# Altium integrated library N-Channel FET.IntLib: 448 symbols (part 5 of 8)
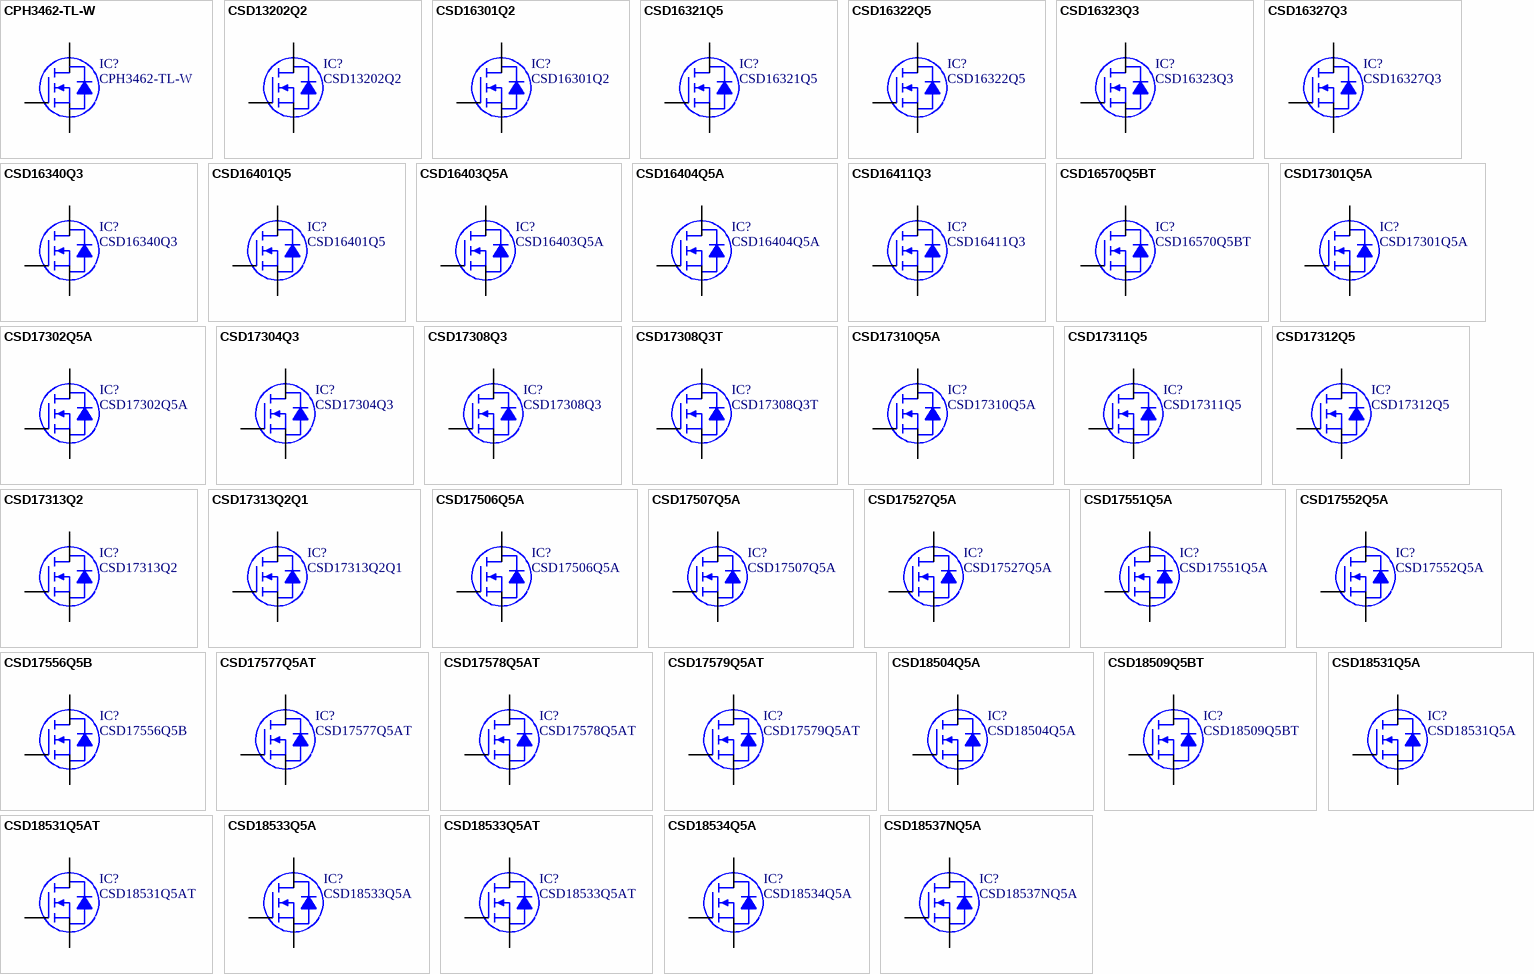
[diagram p15: symbols CPH3462-TL-W to CSD18537NQ5A]

## CSD17308Q3
designator IC?
MOSFET N-CH 30V 47A 8SON; Manufacturer: Texas Instruments; Rds On (Max) at Id, Vgs: 10.3 mOhm @ 10A, 8V; Vgs(th) (Max) at Id: 1.8V @ 250uA; Gate Charge (Qg): 5.1nC @ 4.5V; Input Capacitance (Ciss) at Vds: 700pF @ 15V; Power - Max: 2.7W; Current Continuous Drain: 13A (Ta), 47A (Tc); Part Number: CSD17308Q3; PartId: 18043; Supplier 1: Digi-Key; Supplier Part Number 1: 296-27210-2-ND; ComponentLink1Description: Datasheet; ComponentLink1URL: http://www.ti.com/lit/ds/symlink/csd17308q3.pdf; ComponentLink2Description: Digi-Key Listing; ComponentLink2URL: https://www.digikey.com/product-detail/en/texas-instruments/CSD17308Q3/296-27210-2-ND/2258726; Price: 0.4194; Type: MOSFET N-Channel, Metal Oxide; Device Package: 8-PowerTDFN; Drain to Source Voltage (Vdss): 30V; Features: Standard
footprint TI SON-8 Q3
pins: 1 S, 2 S, 3 S, 4 G, 5 D, 6 D, 7 D, 8 D

## CSD17308Q3T
designator IC?
MOSFET N-CH 30V 50A; Manufacturer: Texas Instruments; Rds On (Max) at Id, Vgs: 10.3 mOhm @ 10A, 8V; Vgs(th) (Max) at Id: 1.8V @ 250uA; Gate Charge (Qg): 5.1nC @ 4.5V; Input Capacitance (Ciss) at Vds: 700pF @ 15V; Power - Max: 2.7W; Current Continuous Drain: 50A (Ta), 44A (Tc); Part Number: CSD17308Q3T; PartId: 18050; Supplier 1: Digi-Key; Supplier Part Number 1: 296-44075-2-ND; ComponentLink1Description: Datasheet; ComponentLink1URL: http://www.ti.com/lit/ds/symlink/csd17308q3.pdf; ComponentLink2Description: Digi-Key Listing; ComponentLink2URL: https://www.digikey.com/product-detail/en/texas-instruments/CSD17308Q3T/296-44075-2-ND/5985436; Price: 0.8314; Type: MOSFET N-Channel, Metal Oxide; Device Package: 8-PowerTDFN; Drain to Source Voltage (Vdss): 30V; Features: Standard
footprint TI SON-8 Q3
pins: 1 S, 2 S, 3 S, 4 G, 5 D, 6 D, 7 D, 8 D

## CSD17310Q5A
designator IC?
MOSFET N-CH 30V 100A 8SON; Manufacturer: Texas Instruments; Rds On (Max) at Id, Vgs: 5.1 mOhm @ 20A, 8V; Vgs(th) (Max) at Id: 1.8V @ 250uA; Gate Charge (Qg): 11.6nC @ 4.5V; Input Capacitance (Ciss) at Vds: 1560pF @ 15V; Power - Max: 3.1W; Current Continuous Drain: 21A (Ta), 100A (Tc); Part Number: CSD17310Q5A; PartId: 18034; Supplier 1: Digi-Key; Supplier Part Number 1: 296-25858-2-ND; ComponentLink1Description: Datasheet; ComponentLink1URL: http://www.ti.com/lit/ds/symlink/csd17310q5a.pdf; ComponentLink2Description: Digi-Key Listing; ComponentLink2URL: https://www.digikey.com/product-detail/en/texas-instruments/CSD17310Q5A/296-25858-2-ND/2237243; Price: 0.5285; Type: MOSFET N-Channel, Metal Oxide; Device Package: 8-PowerTDFN; Drain to Source Voltage (Vdss): 30V; Features: Standard
footprint TI 8-TDFN Q5A
pins: 1 S, 2 S, 3 S, 4 G, 5 D, 6 D, 7 D, 8 D

## CSD17311Q5
designator IC?
MOSFET N-CH 30V 100A 8SON; Manufacturer: Texas Instruments; Rds On (Max) at Id, Vgs: 2 mOhm @ 30A, 8V; Vgs(th) (Max) at Id: 1.6V @ 250uA; Gate Charge (Qg): 31nC @ 4.5V; Input Capacitance (Ciss) at Vds: 4280pF @ 15V; Power - Max: 3.2W; Current Continuous Drain: 32A (Ta), 100A (Tc); Part Number: CSD17311Q5; PartId: 8135; Supplier 1: Digi-Key; Supplier Part Number 1: 296-27625-2-ND; ComponentLink1Description: Datasheet; ComponentLink1URL: http://www.ti.com/lit/ds/symlink/csd17311q5.pdf; ComponentLink2Description: Digi-Key Listing; ComponentLink2URL: http://www.digikey.com/product-detail/en/CSD17311Q5/296-27625-2-ND/2345374; Price: 0.8437; Type: MOSFET N-Channel, Metal Oxide; Device Package: 8-TDFN Exposed Pad; Drain to Source Voltage (Vdss): 30V; Features: Logic Level Gate
footprint TI 8-TDFN Q5
pins: 1 S, 2 S, 3 S, 4 G, 5 D, 6 D, 7 D, 8 D

## CSD17312Q5
designator IC?
MOSFET N-CH 30V 100A 8SON; Manufacturer: Texas Instruments; Rds On (Max) at Id, Vgs: 1.5 mOhm @ 35A, 8V; Vgs(th) (Max) at Id: 1.5V @ 250uA; Gate Charge (Qg): 36nC @ 4.5V; Input Capacitance (Ciss) at Vds: 5240pF @ 15V; Power - Max: 3.2W; Current Continuous Drain: 38A (Ta), 100A (Tc); Part Number: CSD17312Q5; PartId: 8136; Supplier 1: Digi-Key; Supplier Part Number 1: 296-27613-2-ND; ComponentLink1Description: Datasheet; ComponentLink1URL: http://www.ti.com/lit/ds/symlink/csd17312q5.pdf; ComponentLink2Description: Digi-Key Listing; ComponentLink2URL: http://www.digikey.com/product-detail/en/CSD17312Q5/296-27613-2-ND/2342844; Price: 1.0687; Type: MOSFET N-Channel, Metal Oxide; Device Package: 8-TDFN Exposed Pad; Drain to Source Voltage (Vdss): 30V; Features: Logic Level Gate
footprint TI 8-TDFN Q5
pins: 1 S, 2 S, 3 S, 4 G, 5 D, 6 D, 7 D, 8 D

## CSD17313Q2
designator IC?
MOSFET N-CH 30V 5A 6SON; Manufacturer: Texas Instruments; Rds On (Max) at Id, Vgs: 30 mOhm @ 4A, 8V; Vgs(th) (Max) at Id: 1.8V @ 250uA; Gate Charge (Qg): 2.7nC @ 4.5V; Input Capacitance (Ciss) at Vds: 340pF @ 15V; Power - Max: 2.3W; Current Continuous Drain: 5A (Tc); Part Number: CSD17313Q2; PartId: 8128; Supplier 1: Digi-Key; Supplier Part Number 1: 296-27233-2-ND; ComponentLink1Description: Datasheet; ComponentLink1URL: http://www.ti.com/lit/ds/symlink/csd17313q2.pdf; ComponentLink2Description: Digi-Key Listing; ComponentLink2URL: http://www.digikey.com/product-detail/en/CSD17313Q2/296-27233-2-ND/2263833; Price: 0.1725; Type: MOSFET N-Channel, Metal Oxide; Device Package: 6-SMD, Flat Leads; Drain to Source Voltage (Vdss): 30V; Features: Logic Level Gate
footprint TI SON-6 Q2
pins: 1 D, 1 5, 1 6, 1 8, 2 D, 3 G, 4 S, 7 S

## CSD17313Q2Q1
designator IC?
MOSFET N-CH 30V 5A 6SON; Manufacturer: Texas Instruments; Rds On (Max) at Id, Vgs: 30 mOhm @ 4A, 8V; Vgs(th) (Max) at Id: 1.8V @ 250uA; Gate Charge (Qg): 2.7nC @ 4.5V; Input Capacitance (Ciss) at Vds: 340pF @ 15V; Power - Max: 2.3W; Current Continuous Drain: 5A (Tc); Part Number: CSD17313Q2Q1; PartId: 8131; Supplier 1: Digi-Key; Supplier Part Number 1: 296-35548-2-ND; ComponentLink1Description: Datasheet; ComponentLink1URL: http://www.ti.com/lit/ds/symlink/csd17313q2q1.pdf; ComponentLink2Description: Digi-Key Listing; ComponentLink2URL: http://www.digikey.com/product-detail/en/CSD17313Q2Q1/296-35548-2-ND/3821376; Price: 0.2012; Type: MOSFET N-Channel, Metal Oxide; Device Package: 6-WDFN Exposed Pad; Drain to Source Voltage (Vdss): 30V; Features: Logic Level Gate
footprint TI SON-6 Q2
pins: 1 D, 1 5, 1 6, 1 8, 2 D, 3 G, 4 S, 7 S

## CSD17506Q5A
designator IC?
MOSFET N-CH 30V 100A 8SON; Manufacturer: Texas Instruments; Rds On (Max) at Id, Vgs: 4 mOhm @ 20A, 10V; Vgs(th) (Max) at Id: 1.8V @ 250uA; Gate Charge (Qg): 11nC @ 4.5V; Input Capacitance (Ciss) at Vds: 1650pF @ 15V; Power - Max: 3.2W; Current Continuous Drain: 100A (Tc); Part Number: CSD17506Q5A; PartId: 18038; Supplier 1: Digi-Key; Supplier Part Number 1: 296-28408-2-ND; ComponentLink1Description: Datasheet; ComponentLink1URL: http://www.ti.com/lit/ds/symlink/csd17506q5a.pdf; ComponentLink2Description: Digi-Key Listing; ComponentLink2URL: https://www.digikey.com/product-detail/en/texas-instruments/CSD17506Q5A/296-28408-2-ND/2627705; Price: 0.7598; Type: MOSFET N-Channel, Metal Oxide; Device Package: 8-PowerTDFN; Drain to Source Voltage (Vdss): 30V; Features: Standard
footprint TI 8-TDFN Q5A
pins: 1 S, 2 S, 3 S, 4 G, 5 D, 6 D, 7 D, 8 D

## CSD17507Q5A
designator IC?
MOSFET N-CH 30V 65A 8SON; Manufacturer: Texas Instruments; Rds On (Max) at Id, Vgs: 10.8 mOhm @ 11A, 10V; Vgs(th) (Max) at Id: 2.1V @ 250uA; Gate Charge (Qg): 3.6nC @ 4.5V; Input Capacitance (Ciss) at Vds: 530pF @ 15V; Power - Max: 3W; Current Continuous Drain: 13A (Ta), 65A (Tc); Part Number: CSD17507Q5A; PartId: 18040; Supplier 1: Digi-Key; Supplier Part Number 1: 296-27791-2-ND; ComponentLink1Description: Datasheet; ComponentLink1URL: http://www.ti.com/lit/ds/symlink/csd17507q5a.pdf; ComponentLink2Description: Digi-Key Listing; ComponentLink2URL: https://www.digikey.com/product-detail/en/texas-instruments/CSD17507Q5A/296-27791-2-ND/2403767; Price: 0.378; Type: MOSFET N-Channel, Metal Oxide; Device Package: 8-PowerTDFN; Drain to Source Voltage (Vdss): 30V; Features: Standard
footprint TI 8-TDFN Q5A
pins: 1 S, 2 S, 3 S, 4 G, 5 D, 6 D, 7 D, 8 D

## CSD17527Q5A
designator IC?
MOSFET N-CH 30V 65A 8SON; Manufacturer: Texas Instruments; Rds On (Max) at Id, Vgs: 10.8 mOhm @ 11A, 10V; Vgs(th) (Max) at Id: 2V @ 250uA; Gate Charge (Qg): 3.4nC @ 4.5V; Input Capacitance (Ciss) at Vds: 506pF @ 15V; Power - Max: 3W; Current Continuous Drain: 65A (Tc); Part Number: CSD17527Q5A; PartId: 18039; Supplier 1: Digi-Key; Supplier Part Number 1: 296-29021-2-ND; ComponentLink1Description: Datasheet; ComponentLink1URL: http://www.ti.com/lit/ds/symlink/csd17527q5a.pdf; ComponentLink2Description: Digi-Key Listing; ComponentLink2URL: https://www.digikey.com/product-detail/en/texas-instruments/CSD17527Q5A/296-29021-2-ND/2687223; Price: 0.5417; Type: MOSFET N-Channel, Metal Oxide; Device Package: 8-PowerTDFN; Drain to Source Voltage (Vdss): 30V; Features: Standard
footprint TI 8-TDFN Q5A
pins: 1 S, 2 S, 3 S, 4 G, 5 D, 6 D, 7 D, 8 D

## CSD17551Q5A
designator IC?
MOSFET N-CH 30V 8SON; Manufacturer: Texas Instruments; Rds On (Max) at Id, Vgs: 8.8 mOhm @ 11A, 10V; Vgs(th) (Max) at Id: 2.2V @ 250uA; Gate Charge (Qg): 7.2nC @ 4.5V; Input Capacitance (Ciss) at Vds: 1272pF @ 15V; Power - Max: 3W; Current Continuous Drain: 48A (Tc); Part Number: CSD17551Q5A; PartId: 18037; Supplier 1: Digi-Key; Supplier Part Number 1: 296-30612-2-ND; ComponentLink1Description: Datasheet; ComponentLink1URL: http://www.ti.com/lit/ds/symlink/csd17551q5a.pdf; ComponentLink2Description: Digi-Key Listing; ComponentLink2URL: https://www.digikey.com/product-detail/en/texas-instruments/CSD17551Q5A/296-30612-2-ND/3487229; Price: 0.4739; Type: MOSFET N-Channel, Metal Oxide; Device Package: 8-PowerTDFN; Drain to Source Voltage (Vdss): 30V; Features: Standard
footprint TI 8-TDFN Q5A
pins: 1 S, 2 S, 3 S, 4 G, 5 D, 6 D, 7 D, 8 D

## CSD17552Q5A
designator IC?
MOSFET N-CH 30V 17A 8SON; Manufacturer: Texas Instruments; Rds On (Max) at Id, Vgs: 6.2 mOhm @ 15A, 10V; Vgs(th) (Max) at Id: 1.9V @ 250uA; Gate Charge (Qg): 12nC @ 4.5V; Input Capacitance (Ciss) at Vds: 2050pF @ 15V; Power - Max: 3W; Current Continuous Drain: 17A (Ta), 60A (Tc); Part Number: CSD17552Q5A; PartId: 18035; Supplier 1: Digi-Key; Supplier Part Number 1: 296-35580-2-ND; ComponentLink1Description: Datasheet; ComponentLink1URL: http://www.ti.com/lit/ds/symlink/csd17552q5a.pdf; ComponentLink2Description: Digi-Key Listing; ComponentLink2URL: https://www.digikey.com/product-detail/en/texas-instruments/CSD17552Q5A/296-35580-2-ND/3830013; Price: 0.4834; Type: MOSFET N-Channel, Metal Oxide; Device Package: 8-PowerTDFN; Drain to Source Voltage (Vdss): 30V; Features: Logic Level Gate
footprint TI 8-TDFN Q5A
pins: 1 S, 2 S, 3 S, 4 G, 5 D, 6 D, 7 D, 8 D

## CSD17556Q5B
designator IC?
MOSFET N-CH 30V 8-VSON; Manufacturer: Texas Instruments; Rds On (Max) at Id, Vgs: 1.4 mOhm @ 40A, 10V; Vgs(th) (Max) at Id: 1.65V @ 250uA; Gate Charge (Qg): 39nC @ 4.5V; Input Capacitance (Ciss) at Vds: 7020pF @ 15V; Power - Max: 3.1W; Current Continuous Drain: 34A (Ta), 100A (Tc); Part Number: CSD17556Q5B; PartId: 7972; Supplier 1: Digi-Key; Supplier Part Number 1: 296-35726-2-ND; ComponentLink1Description: Datasheet; ComponentLink1URL: http://www.ti.com/lit/ds/symlink/csd17556q5b.pdf; ComponentLink2Description: Digi-Key Listing; ComponentLink2URL: http://www.digikey.com/product-detail/en/CSD17556Q5B/296-35726-2-ND/3974439; Price: 1.1587; Type: MOSFET N-Channel, Metal Oxide; Device Package: 8-TDFN Exposed Pad; Drain to Source Voltage (Vdss): 30V; Features: Standard
footprint TI VSON-8 Q5B
pins: 1 S, 2 S, 3 S, 4 G, 5 D, 6 D, 7 D, 8 D

## CSD17577Q5AT
designator IC?
MOSFET N-CH 30V 60A 8VSON; Manufacturer: Texas Instruments; Rds On (Max) at Id, Vgs: 4.2 mOhm @ 18A, 10V; Vgs(th) (Max) at Id: 1.8V @ 250uA; Gate Charge (Qg): 35nC @ 10V; Input Capacitance (Ciss) at Vds: 2310pF @ 15V; Power - Max: 3W; Current Continuous Drain: 60A (Ta); Part Number: CSD17577Q5AT; PartId: 18030; Supplier 1: Digi-Key; Supplier Part Number 1: 296-38337-2-ND; ComponentLink1Description: Datasheet; ComponentLink1URL: http://www.ti.com/lit/ds/symlink/csd17577q5a.pdf; ComponentLink2Description: Digi-Key Listing; ComponentLink2URL: https://www.digikey.com/product-detail/en/texas-instruments/CSD17577Q5AT/296-38337-2-ND/4968293; Price: 0.8274; Type: MOSFET N-Channel, Metal Oxide; Device Package: 8-PowerVDFN; Drain to Source Voltage (Vdss): 30V; Features: Standard
footprint TI 8-TDFN Q5A
pins: 1 S, 2 S, 3 S, 4 G, 5 D, 6 D, 7 D, 8 D

## CSD17578Q5AT
designator IC?
MOSFET N-CH 30V 25A 8VSON; Manufacturer: Texas Instruments; Rds On (Max) at Id, Vgs: 6.9 mOhm @ 10A, 10V; Vgs(th) (Max) at Id: 1.9V @ 250uA; Gate Charge (Qg): 22.3nC @ 10V; Input Capacitance (Ciss) at Vds: 1510pF @ 15V; Power - Max: 3.1W; Current Continuous Drain: 25A (Ta); Part Number: CSD17578Q5AT; PartId: 18032; Supplier 1: Digi-Key; Supplier Part Number 1: 296-41099-2-ND; ComponentLink1Description: Datasheet; ComponentLink1URL: http://www.ti.com/lit/ds/symlink/csd17578q5a.pdf; ComponentLink2Description: Digi-Key Listing; ComponentLink2URL: https://www.digikey.com/product-detail/en/texas-instruments/CSD17578Q5AT/296-41099-2-ND/5186328; Price: 0.7496; Type: MOSFET N-Channel, Metal Oxide; Device Package: 8-PowerTDFN; Drain to Source Voltage (Vdss): 30V; Features: Standard
footprint TI 8-TDFN Q5A
pins: 1 S, 2 S, 3 S, 4 G, 5 D, 6 D, 7 D, 8 D

## CSD17579Q5AT
designator IC?
MOSFET N-CH 30V 25A 8VSON; Manufacturer: Texas Instruments; Rds On (Max) at Id, Vgs: 9.7 mOhm @ 8A, 10V; Vgs(th) (Max) at Id: 2V @ 250uA; Gate Charge (Qg): 15.1nC @ 10V; Input Capacitance (Ciss) at Vds: 1030pF @ 15V; Power - Max: 3.1W; Current Continuous Drain: 25A (Ta); Part Number: CSD17579Q5AT; PartId: 18031; Supplier 1: Digi-Key; Supplier Part Number 1: 296-41100-2-ND; ComponentLink1Description: Datasheet; ComponentLink1URL: http://www.ti.com/lit/ds/symlink/csd17579q5a.pdf; ComponentLink2Description: Digi-Key Listing; ComponentLink2URL: https://www.digikey.com/product-detail/en/texas-instruments/CSD17579Q5AT/296-41100-2-ND/5186329; Price: 0.6718; Type: MOSFET N-Channel, Metal Oxide; Device Package: 8-PowerTDFN; Drain to Source Voltage (Vdss): 30V; Features: Standard
footprint TI 8-TDFN Q5A
pins: 1 S, 2 S, 3 S, 4 G, 5 D, 6 D, 7 D, 8 D

## CSD18504Q5A
designator IC?
MOSFET N-CH 40V 8SON; Manufacturer: Texas Instruments; Rds On (Max) at Id, Vgs: 6.6 mOhm @ 17A, 10V; Vgs(th) (Max) at Id: 2.4V @ 250uA; Gate Charge (Qg): 19nC @ 10V; Input Capacitance (Ciss) at Vds: 1656pF @ 20V; Power - Max: 3.1W; Current Continuous Drain: 15A (Ta), 50A (Tc); Part Number: CSD18504Q5A; PartId: 18029; Supplier 1: Digi-Key; Supplier Part Number 1: 296-30572-2-ND; ComponentLink1Description: Datasheet; ComponentLink1URL: http://www.ti.com/lit/ds/symlink/csd18504q5a.pdf; ComponentLink2Description: Digi-Key Listing; ComponentLink2URL: https://www.digikey.com/product-detail/en/texas-instruments/CSD18504Q5A/296-30572-2-ND/3478068; Price: 0.5529; Type: MOSFET N-Channel, Metal Oxide; Device Package: 8-PowerTDFN; Drain to Source Voltage (Vdss): 40V; Features: Logic Level Gate
footprint TI 8-TDFN Q5A
pins: 1 S, 2 S, 3 S, 4 G, 5 D, 6 D, 7 D, 8 D

## CSD18509Q5BT
designator IC?
MOSFET N-CH 40V 100A 8VSON; Manufacturer: Texas Instruments; Rds On (Max) at Id, Vgs: 1.2 mOhm @ 32A, 10V; Vgs(th) (Max) at Id: 2.2V @ 250uA; Gate Charge (Qg): 195nC @ 10V; Input Capacitance (Ciss) at Vds: 13900pF @ 20V; Power - Max: 3.1W; Current Continuous Drain: 100A (Ta); Part Number: CSD18509Q5BT; PartId: 7974; Supplier 1: Digi-Key; Supplier Part Number 1: 296-37962-2-ND; ComponentLink1Description: Datasheet; ComponentLink1URL: http://www.ti.com/lit/ds/symlink/csd18509q5b.pdf; ComponentLink2Description: Digi-Key Listing; ComponentLink2URL: http://www.digikey.com/product-detail/en/CSD18509Q5BT/296-37962-2-ND/4915638; Price: 2.0405; Type: MOSFET N-Channel, Metal Oxide; Device Package: 8-PowerTDFN; Drain to Source Voltage (Vdss): 40V; Features: Logic Level Gate
footprint TI VSON-8 Q5B
pins: 1 S, 2 S, 3 S, 4 G, 5 D, 6 D, 7 D, 8 D

## CSD18531Q5A
designator IC?
MOSFET N-CH 60V 8SON; Manufacturer: Texas Instruments; Rds On (Max) at Id, Vgs: 4.6 mOhm @ 22A, 10V; Vgs(th) (Max) at Id: 2.3V @ 250uA; Gate Charge (Qg): 43nC @ 10V; Input Capacitance (Ciss) at Vds: 3840pF @ 30V; Power - Max: 3.1W; Current Continuous Drain: 19A (Ta), 100A (Tc); Part Number: CSD18531Q5A; PartId: 18025; Supplier 1: Digi-Key; Supplier Part Number 1: 296-30573-2-ND; ComponentLink1Description: Datasheet; ComponentLink1URL: http://www.ti.com/lit/ds/symlink/csd18531q5a.pdf; ComponentLink2Description: Digi-Key Listing; ComponentLink2URL: https://www.digikey.com/product-detail/en/texas-instruments/CSD18531Q5A/296-30573-2-ND/3478069; Price: 0.9762; Type: MOSFET N-Channel, Metal Oxide; Device Package: 8-PowerTDFN; Drain to Source Voltage (Vdss): 60V; Features: Logic Level Gate
footprint TI 8-TDFN Q5A
pins: 1 S, 2 S, 3 S, 4 G, 5 D, 6 D, 7 D, 8 D

## CSD18531Q5AT
designator IC?
MOSFET N-CH 60V 100A 8SON; Manufacturer: Texas Instruments; Rds On (Max) at Id, Vgs: 4.6 mOhm @ 22A, 10V; Vgs(th) (Max) at Id: 2.3V @ 250uA; Gate Charge (Qg): 43nC @ 10V; Input Capacitance (Ciss) at Vds: 3840pF @ 30V; Power - Max: 3.1W; Current Continuous Drain: 100A (Ta); Part Number: CSD18531Q5AT; PartId: 18022; Supplier 1: Digi-Key; Supplier Part Number 1: 296-41958-2-ND; ComponentLink1Description: Datasheet; ComponentLink1URL: http://www.ti.com/lit/ds/symlink/csd18531q5a.pdf; ComponentLink2Description: Digi-Key Listing; ComponentLink2URL: https://www.digikey.com/product-detail/en/texas-instruments/CSD18531Q5AT/296-41958-2-ND/5226495; Price: 1.7364; Type: MOSFET N-Channel, Metal Oxide; Device Package: 8-PowerTDFN; Drain to Source Voltage (Vdss): 60V; Features: Logic Level Gate
footprint TI 8-TDFN Q5A
pins: 1 S, 2 S, 3 S, 4 G, 5 D, 6 D, 7 D, 8 D

## CSD18533Q5A
designator IC?
MOSFET N-CH 60V 17A 8SON; Manufacturer: Texas Instruments; Rds On (Max) at Id, Vgs: 5.9 mOhm @ 18A, 10V; Vgs(th) (Max) at Id: 2.3V @ 250uA; Gate Charge (Qg): 36nC @ 10V; Input Capacitance (Ciss) at Vds: 2750pF @ 30V; Power - Max: 3.2W; Current Continuous Drain: 17A (Ta), 100A (Tc); Part Number: CSD18533Q5A; PartId: 18026; Supplier 1: Digi-Key; Supplier Part Number 1: 296-35027-2-ND; ComponentLink1Description: Datasheet; ComponentLink1URL: http://www.ti.com/lit/ds/symlink/csd18533q5a.pdf; ComponentLink2Description: Digi-Key Listing; ComponentLink2URL: https://www.digikey.com/product-detail/en/texas-instruments/CSD18533Q5A/296-35027-2-ND/3674878; Price: 0.773; Type: MOSFET N-Channel, Metal Oxide; Device Package: 8-PowerTDFN; Drain to Source Voltage (Vdss): 60V; Features: Logic Level Gate
footprint TI 8-TDFN Q5A
pins: 1 S, 2 S, 3 S, 4 G, 5 D, 6 D, 7 D, 8 D

## CSD18533Q5AT
designator IC?
MOSFET N-CH 60V 100A 8SON; Manufacturer: Texas Instruments; Rds On (Max) at Id, Vgs: 5.9 mOhm @ 18A, 10V; Vgs(th) (Max) at Id: 2.3V @ 250uA; Gate Charge (Qg): 36nC @ 10V; Input Capacitance (Ciss) at Vds: 2750pF @ 30V; Power - Max: 3.2W; Current Continuous Drain: 17A (Ta), 100A (Tc); Part Number: CSD18533Q5AT; PartId: 18020; Supplier 1: Digi-Key; Supplier Part Number 1: 296-41959-2-ND; ComponentLink1Description: Datasheet; ComponentLink1URL: http://www.ti.com/lit/ds/symlink/csd18533q5a.pdf; ComponentLink2Description: Digi-Key Listing; ComponentLink2URL: https://www.digikey.com/product-detail/en/texas-instruments/CSD18533Q5AT/296-41959-2-ND/5226496; Price: 1.4655; Type: MOSFET N-Channel, Metal Oxide; Device Package: 8-PowerTDFN; Drain to Source Voltage (Vdss): 60V; Features: Logic Level Gate
footprint TI 8-TDFN Q5A
pins: 1 S, 2 S, 3 S, 4 G, 5 D, 6 D, 7 D, 8 D

## CSD18534Q5A
designator IC?
MOSFET N-CH 60V 8SON; Manufacturer: Texas Instruments; Rds On (Max) at Id, Vgs: 9.8 mOhm @ 14A, 10V; Vgs(th) (Max) at Id: 2.3V @ 250uA; Gate Charge (Qg): 22nC @ 10V; Input Capacitance (Ciss) at Vds: 1770pF @ 30V; Power - Max: 3.1W; Current Continuous Drain: 13A (Ta), 50A (Tc); Part Number: CSD18534Q5A; PartId: 18027; Supplier 1: Digi-Key; Supplier Part Number 1: 296-35583-2-ND; ComponentLink1Description: Datasheet; ComponentLink1URL: http://www.ti.com/lit/ds/symlink/csd18534q5a.pdf; ComponentLink2Description: Digi-Key Listing; ComponentLink2URL: https://www.digikey.com/product-detail/en/texas-instruments/CSD18534Q5A/296-35583-2-ND/3830016; Price: 0.5529; Type: MOSFET N-Channel, Metal Oxide; Device Package: 8-PowerTDFN; Drain to Source Voltage (Vdss): 60V; Features: Logic Level Gate
footprint TI 8-TDFN Q5A
pins: 1 S, 2 S, 3 S, 4 G, 5 D, 6 D, 7 D, 8 D

## CSD18537NQ5A
designator IC?
MOSFET N-CH 60V 50A 8SON; Manufacturer: Texas Instruments; Rds On (Max) at Id, Vgs: 13 mOhm @ 12A, 10V; Vgs(th) (Max) at Id: 3.5V @ 250uA; Gate Charge (Qg): 18nC @ 10V; Input Capacitance (Ciss) at Vds: 1480pF @ 30V; Power - Max: 75W; Current Continuous Drain: 11A (Ta), 50A (Tc); Part Number: CSD18537NQ5A; PartId: 18028; Supplier 1: Digi-Key; Supplier Part Number 1: 296-36455-2-ND; ComponentLink1Description: Datasheet; ComponentLink1URL: http://www.ti.com/lit/ds/symlink/csd18537nq5a.pdf; ComponentLink2Description: Digi-Key Listing; ComponentLink2URL: https://www.digikey.com/product-detail/en/texas-instruments/CSD18537NQ5A/296-36455-2-ND/4279646; Price: 0.4683; Type: MOSFET N-Channel, Metal Oxide; Device Package: 8-PowerTDFN; Drain to Source Voltage (Vdss): 60V; Features: Standard
footprint TI 8-TDFN Q5A
pins: 1 S, 2 S, 3 S, 4 G, 5 D, 6 D, 7 D, 8 D

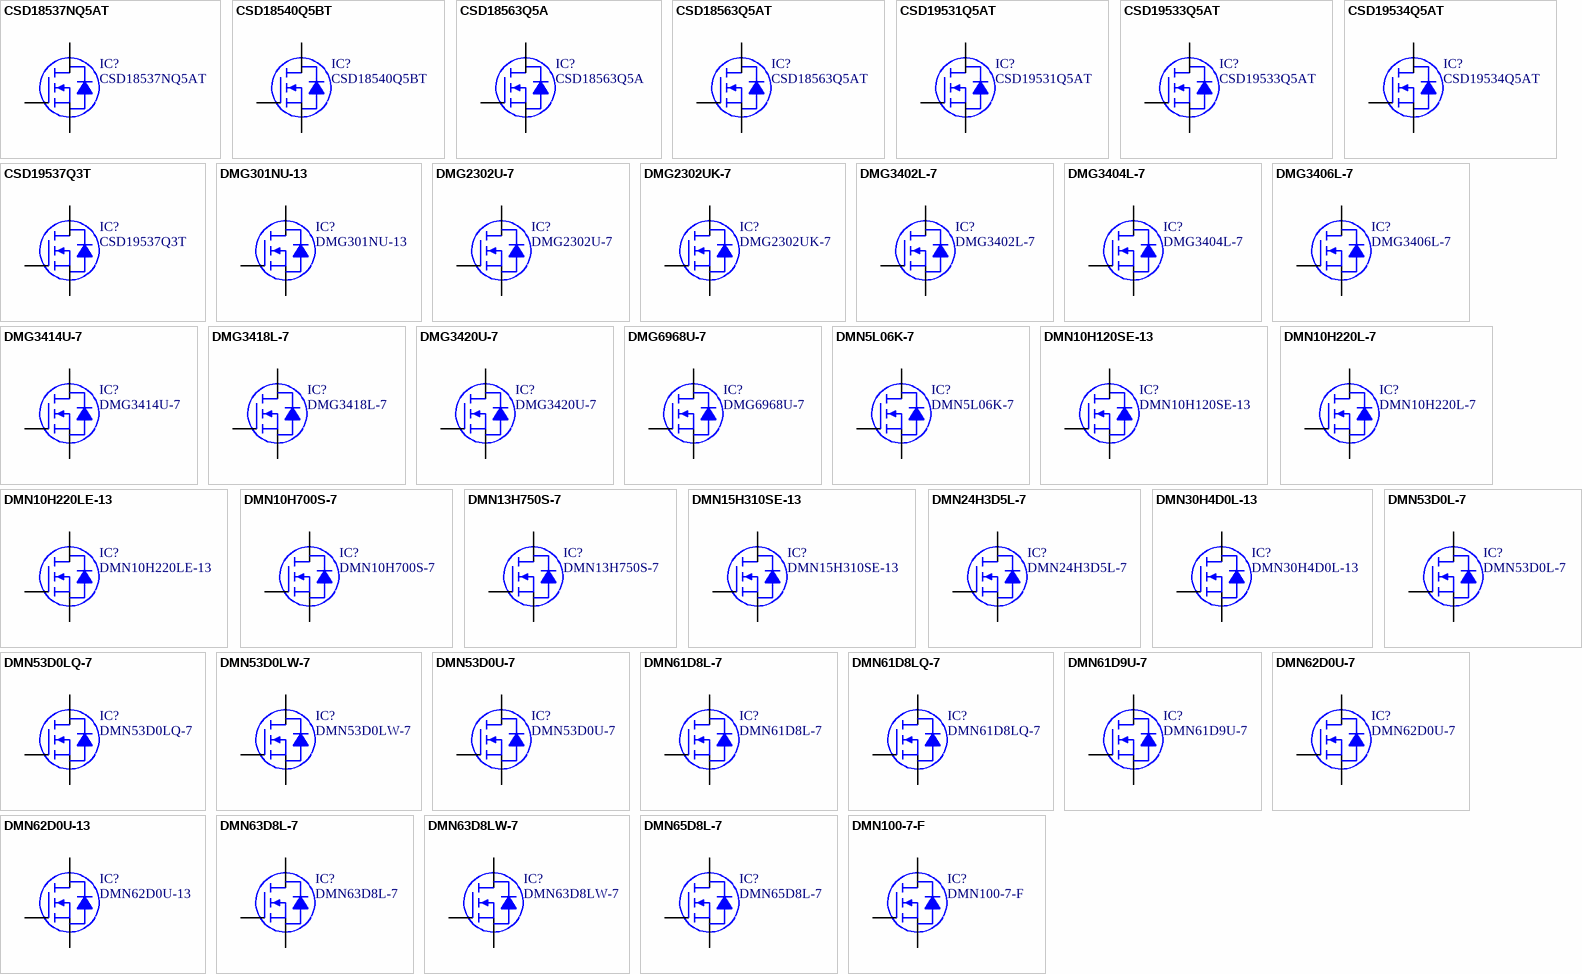
[diagram p6: symbols CSD18537NQ5AT to DMN100-7-F]

## CSD18537NQ5AT
designator IC?
MOSFET N-CH 60V 50A 8SON; Manufacturer: Texas Instruments; Rds On (Max) at Id, Vgs: 13 mOhm @ 12A, 10V; Vgs(th) (Max) at Id: 3.5V @ 250uA; Gate Charge (Qg): 18nC @ 10V; Input Capacitance (Ciss) at Vds: 1480pF @ 30V; Power - Max: 75W; Current Continuous Drain: 50A (Ta); Part Number: CSD18537NQ5AT; PartId: 18023; Supplier 1: Digi-Key; Supplier Part Number 1: 296-37747-2-ND; ComponentLink1Description: Datasheet; ComponentLink1URL: http://www.ti.com/lit/ds/symlink/csd18537nq5a.pdf; ComponentLink2Description: Digi-Key Listing; ComponentLink2URL: https://www.digikey.com/product-detail/en/texas-instruments/CSD18537NQ5AT/296-37747-2-ND/4840659; Price: 0.8606; Type: MOSFET N-Channel, Metal Oxide; Device Package: 8-PowerTDFN; Drain to Source Voltage (Vdss): 60V; Features: Standard
footprint TI 8-TDFN Q5A
pins: 1 S, 2 S, 3 S, 4 G, 5 D, 6 D, 7 D, 8 D

## CSD18540Q5BT
designator IC?
MOSFET N-CH 60V 100A 8VSON; Manufacturer: Texas Instruments; Rds On (Max) at Id, Vgs: 2.2 mOhm @ 28A, 10V; Vgs(th) (Max) at Id: 2.3V @ 250uA; Gate Charge (Qg): 53nC @ 10V; Input Capacitance (Ciss) at Vds: 4230pF @ 30V; Power - Max: 3.1W; Current Continuous Drain: 100A (Ta); Part Number: CSD18540Q5BT; PartId: 7975; Supplier 1: Digi-Key; Supplier Part Number 1: 296-37963-2-ND; ComponentLink1Description: Datasheet; ComponentLink1URL: http://www.ti.com/lit/ds/symlink/csd18540q5b.pdf; ComponentLink2Description: Digi-Key Listing; ComponentLink2URL: http://www.digikey.com/product-detail/en/CSD18540Q5BT/296-37963-2-ND/4915639; Price: 2.0405; Type: MOSFET N-Channel, Metal Oxide; Device Package: 8-PowerTDFN; Drain to Source Voltage (Vdss): 60V; Features: Standard
footprint TI VSON-8 Q5B
pins: 1 S, 2 S, 3 S, 4 G, 5 D, 6 D, 7 D, 8 D

## CSD18563Q5A
designator IC?
MOSFET N-CH 60V 100A 8SON; Manufacturer: Texas Instruments; Rds On (Max) at Id, Vgs: 6.8 mOhm @ 18A, 10V; Vgs(th) (Max) at Id: 2.4V @ 250uA; Gate Charge (Qg): 20nC @ 10V; Input Capacitance (Ciss) at Vds: 1500pF @ 30V; Power - Max: 3.2W; Current Continuous Drain: 100A (Ta); Part Number: CSD18563Q5A; PartId: 18024; Supplier 1: Digi-Key; Supplier Part Number 1: 296-36511-2-ND; ComponentLink1Description: Datasheet; ComponentLink1URL: http://www.ti.com/lit/ds/symlink/csd18563q5a.pdf; ComponentLink2Description: Digi-Key Listing; ComponentLink2URL: https://www.digikey.com/product-detail/en/texas-instruments/CSD18563Q5A/296-36511-2-ND/4307641; Price: 0.9762; Type: MOSFET N-Channel, Metal Oxide; Device Package: 8-PowerTDFN; Drain to Source Voltage (Vdss): 60V; Features: Logic Level Gate
footprint TI 8-TDFN Q5A
pins: 1 S, 2 S, 3 S, 4 G, 5 D, 6 D, 7 D, 8 D

## CSD18563Q5AT
designator IC?
MOSFET N-CH 60V 100A 8SON; Manufacturer: Texas Instruments; Rds On (Max) at Id, Vgs: 6.8 mOhm @ 18A, 10V; Vgs(th) (Max) at Id: 2.4V @ 250uA; Gate Charge (Qg): 20nC @ 10V; Input Capacitance (Ciss) at Vds: 1500pF @ 30V; Power - Max: 3.2W; Current Continuous Drain: 100A (Ta); Part Number: CSD18563Q5AT; PartId: 18021; Supplier 1: Digi-Key; Supplier Part Number 1: 296-37748-2-ND; ComponentLink1Description: Datasheet; ComponentLink1URL: http://www.ti.com/lit/ds/symlink/csd18563q5a.pdf; ComponentLink2Description: Digi-Key Listing; ComponentLink2URL: https://www.digikey.com/product-detail/en/texas-instruments/CSD18563Q5AT/296-37748-2-ND/4840660; Price: 1.7364; Type: MOSFET N-Channel, Metal Oxide; Device Package: 8-PowerTDFN; Drain to Source Voltage (Vdss): 60V; Features: Logic Level Gate
footprint TI 8-TDFN Q5A
pins: 1 S, 2 S, 3 S, 4 G, 5 D, 6 D, 7 D, 8 D

## CSD19531Q5AT
designator IC?
MOSFET N-CH 100V 100A 8SON; Manufacturer: Texas Instruments; Rds On (Max) at Id, Vgs: 6.4 mOhm @ 16A, 10V; Vgs(th) (Max) at Id: 3.3V @ 250uA; Gate Charge (Qg): 48nC @ 10V; Input Capacitance (Ciss) at Vds: 3870pF @ 50V; Power - Max: 3.3W; Current Continuous Drain: 100A (Ta); Part Number: CSD19531Q5AT; PartId: 18018; Supplier 1: Digi-Key; Supplier Part Number 1: 296-37749-2-ND; ComponentLink1Description: Datasheet; ComponentLink1URL: http://www.ti.com/lit/ds/symlink/csd19531q5a.pdf; ComponentLink2Description: Digi-Key Listing; ComponentLink2URL: https://www.digikey.com/product-detail/en/texas-instruments/CSD19531Q5AT/296-37749-2-ND/4840661; Price: 1.7996; Type: MOSFET N-Channel, Metal Oxide; Device Package: 8-PowerTDFN; Drain to Source Voltage (Vdss): 100V; Features: Standard
footprint TI 8-TDFN Q5A
pins: 1 S, 2 S, 3 S, 4 G, 5 D, 6 D, 7 D, 8 D

## CSD19533Q5AT
designator IC?
MOSFET N-CH 100V 100A VSONP; Manufacturer: Texas Instruments; Rds On (Max) at Id, Vgs: 9.4 mOhm @ 13A, 6V; Vgs(th) (Max) at Id: 3.4V @ 250uA; Gate Charge (Qg): 35nC @ 10V; Input Capacitance (Ciss) at Vds: 2670pF @ 50V; Power - Max: 3.2W; Current Continuous Drain: 100A (Ta); Part Number: CSD19533Q5AT; PartId: 18017; Supplier 1: Digi-Key; Supplier Part Number 1: 296-44472-2-ND; ComponentLink1Description: Datasheet; ComponentLink1URL: http://www.ti.com/lit/ds/symlink/csd19533q5a.pdf; ComponentLink2Description: Digi-Key Listing; ComponentLink2URL: https://www.digikey.com/product-detail/en/texas-instruments/CSD19533Q5AT/296-44472-2-ND/6110537; Price: 1.5302; Type: MOSFET N-Channel, Metal Oxide; Device Package: 8-PowerTDFN; Drain to Source Voltage (Vdss): 100V; Features: Standard
footprint TI 8-TDFN Q5A
pins: 1 S, 2 S, 3 S, 4 G, 5 D, 6 D, 7 D, 8 D

## CSD19534Q5AT
designator IC?
MOSFET N-CH 100V 50 8SON; Manufacturer: Texas Instruments; Rds On (Max) at Id, Vgs: 15.1 mOhm @ 10A, 10V; Vgs(th) (Max) at Id: 3.4V @ 250uA; Gate Charge (Qg): 22nC @ 10V; Input Capacitance (Ciss) at Vds: 1680pF @ 50V; Power - Max: 3.2W; Current Continuous Drain: 50A (Ta); Part Number: CSD19534Q5AT; PartId: 18019; Supplier 1: Digi-Key; Supplier Part Number 1: 296-37838-2-ND; ComponentLink1Description: Datasheet; ComponentLink1URL: http://www.ti.com/lit/ds/symlink/csd19534q5a.pdf; ComponentLink2Description: Digi-Key Listing; ComponentLink2URL: https://www.digikey.com/product-detail/en/texas-instruments/CSD19534Q5AT/296-37838-2-ND/4876343; Price: 0.9995; Type: MOSFET N-Channel, Metal Oxide; Device Package: 8-PowerTDFN; Drain to Source Voltage (Vdss): 100V; Features: Standard
footprint TI 8-TDFN Q5A
pins: 1 S, 2 S, 3 S, 4 G, 5 D, 6 D, 7 D, 8 D

## CSD19537Q3T
designator IC?
MOSFET N-CH 100V 50A 8VSON; Manufacturer: Texas Instruments; Rds On (Max) at Id, Vgs: 14.5 mOhm @ 10A, 10V; Vgs(th) (Max) at Id: 3.6V @ 250uA; Gate Charge (Qg): 21nC @ 10V; Input Capacitance (Ciss) at Vds: 1680pF @ 50V; Power - Max: 2.8W; Current Continuous Drain: 50A (Ta); Part Number: CSD19537Q3T; PartId: 18049; Supplier 1: Digi-Key; Supplier Part Number 1: 296-42632-2-ND; ComponentLink1Description: Datasheet; ComponentLink1URL: http://www.ti.com/lit/ds/symlink/csd19537q3.pdf; ComponentLink2Description: Digi-Key Listing; ComponentLink2URL: https://www.digikey.com/product-detail/en/texas-instruments/CSD19537Q3T/296-42632-2-ND/5455662; Price: 1.2908; Type: MOSFET N-Channel, Metal Oxide; Device Package: 8-PowerVDFN; Drain to Source Voltage (Vdss): 100V; Features: Standard
footprint TI SON-8 Q3
pins: 1 S, 2 S, 3 S, 4 G, 5 D, 6 D, 7 D, 8 D

## DMG301NU-13
designator IC?
MOSFET N-CH 25V .26A SOT-23; Manufacturer: Diodes Incorporated; Rds On (Max) at Id, Vgs: 4 Ohm @ 400mA, 4.5V; Vgs(th) (Max) at Id: 8V; Gate Charge (Qg): 0.36nC @ 4.5V; Input Capacitance (Ciss) at Vds: 27.9pF @ 10V; Current Continuous Drain: 260mA (Ta); Part Number: DMG301NU-13; PartId: 29578; Supplier 1: Digi-Key; Supplier Part Number 1: DMG301NU-13DICT-ND; ComponentLink1Description: Datasheet; ComponentLink1URL: http://diodes.com/_files/datasheets/DMG301NU.pdf; ComponentLink2Description: Digi-Key Listing; ComponentLink2URL: https://www.digikey.com/product-detail/en/diodes-incorporated/DMG301NU-13/DMG301NU-13DICT-ND/4794803; Price: 0.63; Type: N-Channel; Device Package: TO-236-3, SC-59, SOT-23-3; Drain to Source Voltage (Vdss): 25V
footprint DIODES SOT-23-3
pins: 1 G, 2 D, 3 S

## DMG2302U-7
designator IC?
MOSFET N-CH 20V 4.2A SOT23; Manufacturer: Diodes Incorporated; Rds On (Max) at Id, Vgs: 90 mOhm @ 3.6A, 4.5V; Vgs(th) (Max) at Id: 8V; Gate Charge (Qg): 7nC @ 4.5V; Input Capacitance (Ciss) at Vds: 594.3pF @ 10V; Current Continuous Drain: 4.2A (Ta); Part Number: DMG2302U-7; PartId: 29530; Supplier 1: Digi-Key; Supplier Part Number 1: DMG2302U-7DICT-ND; ComponentLink1Description: Datasheet; ComponentLink1URL: http://www.diodes.com/_files/datasheets/ds31838.pdf; ComponentLink2Description: Digi-Key Listing; ComponentLink2URL: https://www.digikey.com/product-detail/en/diodes-incorporated/DMG2302U-7/DMG2302U-7DICT-ND/2192627; Price: 0.53; Type: N-Channel; Device Package: TO-236-3, SC-59, SOT-23-3; Drain to Source Voltage (Vdss): 20V
footprint DIODES SOT-23-3
pins: 1 G, 2 D, 3 S

## DMG2302UK-7
designator IC?
MOSFET N-CH 20V 2.8A SOT23; Manufacturer: Diodes Incorporated; Rds On (Max) at Id, Vgs: 90 mOhm @ 3.6A, 4.5V; Vgs(th) (Max) at Id: 12V; Gate Charge (Qg): 2.8nC @ 10V; Input Capacitance (Ciss) at Vds: 130pF @ 10V; Current Continuous Drain: 2.8A (Ta); Part Number: DMG2302UK-7; PartId: 29576; Supplier 1: Digi-Key; Supplier Part Number 1: DMG2302UK-7DICT-ND; ComponentLink1Description: Datasheet; ComponentLink1URL: http://www.diodes.com/_files/datasheets/DMG2302UK.pdf; ComponentLink2Description: Digi-Key Listing; ComponentLink2URL: https://www.digikey.com/product-detail/en/diodes-incorporated/DMG2302UK-7/DMG2302UK-7DICT-ND/6010163; Price: 0.48; Type: N-Channel; Device Package: TO-236-3, SC-59, SOT-23-3; Drain to Source Voltage (Vdss): 20V
footprint DIODES SOT-23-3
pins: 1 G, 2 D, 3 S

## DMG3402L-7
designator IC?
MOSFET N-CH 30V 4A SOT23; Manufacturer: Diodes Incorporated; Rds On (Max) at Id, Vgs: 52 mOhm @ 4A, 10V; Vgs(th) (Max) at Id: 12V; Gate Charge (Qg): 11.7nC @ 10V; Input Capacitance (Ciss) at Vds: 464pF @ 15V; Current Continuous Drain: 4A (Ta); Part Number: DMG3402L-7; PartId: 29527; Supplier 1: Digi-Key; Supplier Part Number 1: DMG3402L-7DICT-ND; ComponentLink1Description: Datasheet; ComponentLink1URL: http://www.diodes.com/_files/datasheets/DMG3402L.pdf; ComponentLink2Description: Digi-Key Listing; ComponentLink2URL: https://www.digikey.com/product-detail/en/diodes-incorporated/DMG3402L-7/DMG3402L-7DICT-ND/4747628; Price: 0.6; Type: N-Channel; Device Package: TO-236-3, SC-59, SOT-23-3; Drain to Source Voltage (Vdss): 30V
footprint DIODES SOT-23-3
pins: 1 G, 2 D, 3 S

## DMG3404L-7
designator IC?
MOSFET N-CH 30V 4.2A SOT23; Manufacturer: Diodes Incorporated; Rds On (Max) at Id, Vgs: 25 mOhm @ 5.8A, 10V; Vgs(th) (Max) at Id: 20V; Gate Charge (Qg): 13.2nC @ 10V; Input Capacitance (Ciss) at Vds: 641pF @ 15V; Current Continuous Drain: 4.2A (Ta); Part Number: DMG3404L-7; PartId: 29577; Supplier 1: Digi-Key; Supplier Part Number 1: DMG3404L-7DICT-ND; ComponentLink1Description: Datasheet; ComponentLink1URL: http://diodes.com/_files/datasheets/DMG3404L.pdf; ComponentLink2Description: Digi-Key Listing; ComponentLink2URL: https://www.digikey.com/product-detail/en/diodes-incorporated/DMG3404L-7/DMG3404L-7DICT-ND/5223237; Price: 0.63; Type: N-Channel; Device Package: TO-236-3, SC-59, SOT-23-3; Drain to Source Voltage (Vdss): 30V
footprint DIODES SOT-23-3
pins: 1 G, 2 D, 3 S

## DMG3406L-7
designator IC?
MOSFET N-CH 30V 3.6A SOT23; Manufacturer: Diodes Incorporated; Rds On (Max) at Id, Vgs: 50 mOhm @ 3.6A, 10V; Vgs(th) (Max) at Id: 20V; Gate Charge (Qg): 11.2nC @ 10V; Input Capacitance (Ciss) at Vds: 495pF @ 15V; Current Continuous Drain: 3.6A (Ta); Part Number: DMG3406L-7; PartId: 29525; Supplier 1: Digi-Key; Supplier Part Number 1: DMG3406L-7DICT-ND; ComponentLink1Description: Datasheet; ComponentLink1URL: http://diodes.com/_files/datasheets/DMG3406L.pdf; ComponentLink2Description: Digi-Key Listing; ComponentLink2URL: https://www.digikey.com/product-detail/en/diodes-incorporated/DMG3406L-7/DMG3406L-7DICT-ND/5223238; Price: 0.6; Type: N-Channel; Device Package: TO-236-3, SC-59, SOT-23-3; Drain to Source Voltage (Vdss): 30V
footprint DIODES SOT-23-3
pins: 1 G, 2 D, 3 S

## DMG3414U-7
designator IC?
MOSFET N-CH 20V 4.2A SOT23; Manufacturer: Diodes Incorporated; Rds On (Max) at Id, Vgs: 25 mOhm @ 8.2A, 4.5V; Vgs(th) (Max) at Id: 8V; Gate Charge (Qg): 9.6nC @ 4.5V; Input Capacitance (Ciss) at Vds: 829.9pF @ 10V; Current Continuous Drain: 4.2A (Ta); Part Number: DMG3414U-7; PartId: 29510; Supplier 1: Digi-Key; Supplier Part Number 1: DMG3414U-7DICT-ND; ComponentLink1Description: Datasheet; ComponentLink1URL: http://www.diodes.com/_files/datasheets/ds31739.pdf; ComponentLink2Description: Digi-Key Listing; ComponentLink2URL: https://www.digikey.com/product-detail/en/diodes-incorporated/DMG3414U-7/DMG3414U-7DICT-ND/2183251; Price: 0.66; Type: N-Channel; Device Package: TO-236-3, SC-59, SOT-23-3; Drain to Source Voltage (Vdss): 20V
footprint DIODES SOT-23-3
pins: 1 G, 2 D, 3 S

## DMG3418L-7
designator IC?
MOSFET N-CH 30V 4A SOT23; Manufacturer: Diodes Incorporated; Rds On (Max) at Id, Vgs: 60 mOhm @ 4A, 10V; Vgs(th) (Max) at Id: 12V; Gate Charge (Qg): 5.5nC @ 4.5V; Input Capacitance (Ciss) at Vds: 464.3pF @ 15V; Current Continuous Drain: 4A (Ta); Part Number: DMG3418L-7; PartId: 29568; Supplier 1: Digi-Key; Supplier Part Number 1: DMG3418L-7DICT-ND; ComponentLink1Description: Datasheet; ComponentLink1URL: http://diodes.com/_files/datasheets/DMG3418L.pdf; ComponentLink2Description: Digi-Key Listing; ComponentLink2URL: https://www.digikey.com/product-detail/en/diodes-incorporated/DMG3418L-7/DMG3418L-7DICT-ND/4810990; Price: 0.59; Type: N-Channel; Device Package: TO-236-3, SC-59, SOT-23-3; Drain to Source Voltage (Vdss): 30V
footprint DIODES SOT-23-3
pins: 1 G, 2 D, 3 S

## DMG3420U-7
designator IC?
MOSFET N-CH 20V 5.47A SOT23; Manufacturer: Diodes Incorporated; Rds On (Max) at Id, Vgs: 29 mOhm @ 6A, 10V; Vgs(th) (Max) at Id: 12V; Gate Charge (Qg): 5.4nC @ 4.5V; Input Capacitance (Ciss) at Vds: 434.7pF @ 10V; Current Continuous Drain: 5.47A (Ta); Part Number: DMG3420U-7; PartId: 29494; Supplier 1: Digi-Key; Supplier Part Number 1: DMG3420U-7DICT-ND; ComponentLink1Description: Datasheet; ComponentLink1URL: http://www.diodes.com/_files/datasheets/ds31867.pdf; ComponentLink2Description: Digi-Key Listing; ComponentLink2URL: https://www.digikey.com/product-detail/en/diodes-incorporated/DMG3420U-7/DMG3420U-7DICT-ND/2279223; Price: 0.56; Type: N-Channel; Device Package: TO-236-3, SC-59, SOT-23-3; Drain to Source Voltage (Vdss): 20V
footprint DIODES SOT-23-3
pins: 1 G, 2 D, 3 S

## DMG6968U-7
designator IC?
MOSFET N-CH 20V 6.5A SOT-23; Manufacturer: Diodes Incorporated; Rds On (Max) at Id, Vgs: 25 mOhm @ 6.5A, 4.5V; Vgs(th) (Max) at Id: 12V; Gate Charge (Qg): 8.5nC @ 4.5V; Input Capacitance (Ciss) at Vds: 151pF @ 10V; Current Continuous Drain: 6.5A (Ta); Part Number: DMG6968U-7; PartId: 29502; Supplier 1: Digi-Key; Supplier Part Number 1: DMG6968UDICT-ND; ComponentLink1Description: Datasheet; ComponentLink1URL: http://www.diodes.com/_files/datasheets/ds31738.pdf; ComponentLink2Description: Digi-Key Listing; ComponentLink2URL: https://www.digikey.com/product-detail/en/diodes-incorporated/DMG6968U-7/DMG6968UDICT-ND/2052800; Price: 0.67; Type: N-Channel; Device Package: TO-236-3, SC-59, SOT-23-3; Drain to Source Voltage (Vdss): 20V
footprint DIODES SOT-23-3
pins: 1 G, 2 D, 3 S

## DMN5L06K-7
designator IC?
MOSFET N-CH 50V 300MA SOT23-3; Manufacturer: Diodes Incorporated; Rds On (Max) at Id, Vgs: 2 Ohm @ 50mA, 5V; Vgs(th) (Max) at Id: 20V; Input Capacitance (Ciss) at Vds: 50pF @ 25V; Current Continuous Drain: 300mA (Ta); Part Number: DMN5L06K-7; PartId: 29497; Supplier 1: Digi-Key; Supplier Part Number 1: DMN5L06KDICT-ND; ComponentLink1Description: Datasheet; ComponentLink1URL: http://www.diodes.com/_files/datasheets/ds30929.pdf; ComponentLink2Description: Digi-Key Listing; ComponentLink2URL: https://www.digikey.com/product-detail/en/diodes-incorporated/DMN5L06K-7/DMN5L06KDICT-ND/1287193; Price: 0.65; Type: N-Channel; Device Package: TO-236-3, SC-59, SOT-23-3; Drain to Source Voltage (Vdss): 50V
footprint DIODES SOT-23-3
pins: 1 G, 2 D, 3 S

## DMN10H120SE-13
designator IC?
MOSFET N-CH 100V 3.6A SOT223; Manufacturer: Diodes Incorporated; Rds On (Max) at Id, Vgs: 110 mOhm @ 3.3A, 10V; Vgs(th) (Max) at Id: 20V; Gate Charge (Qg): 10nC @ 10V; Input Capacitance (Ciss) at Vds: 549pF @ 50V; Current Continuous Drain: 3.6A (Ta); Part Number: DMN10H120SE-13; PartId: 29665; Supplier 1: Digi-Key; Supplier Part Number 1: DMN10H120SE-13DICT-ND; ComponentLink1Description: Datasheet; ComponentLink1URL: http://diodes.com/_files/datasheets/DMN10H120SE.pdf; ComponentLink2Description: Digi-Key Listing; ComponentLink2URL: https://www.digikey.com/product-detail/en/diodes-incorporated/DMN10H120SE-13/DMN10H120SE-13DICT-ND/5126862; Price: 0.87; Type: N-Channel; Device Package: TO-261-4, TO-261AA; Drain to Source Voltage (Vdss): 100V
footprint DIODES SOT-223
pins: 1 G, 2 D, 3 S, 4 D

## DMN10H220L-7
designator IC?
MOSFET N-CH 100V 1.6A SOT-23; Manufacturer: Diodes Incorporated; Rds On (Max) at Id, Vgs: 220 mOhm @ 1.6A, 10V; Vgs(th) (Max) at Id: 16V; Gate Charge (Qg): 8.3nC @ 10V; Input Capacitance (Ciss) at Vds: 401pF @ 25V; Current Continuous Drain: 1.4A (Ta); Part Number: DMN10H220L-7; PartId: 29539; Supplier 1: Digi-Key; Supplier Part Number 1: DMN10H220L-7DICT-ND; ComponentLink1Description: Datasheet; ComponentLink1URL: http://diodes.com/_files/datasheets/DMN10H220L.pdf; ComponentLink2Description: Digi-Key Listing; ComponentLink2URL: https://www.digikey.com/product-detail/en/diodes-incorporated/DMN10H220L-7/DMN10H220L-7DICT-ND/4794804; Price: 0.6; Type: N-Channel; Device Package: TO-236-3, SC-59, SOT-23-3; Drain to Source Voltage (Vdss): 100V
footprint DIODES SOT-23-3
pins: 1 G, 2 D, 3 S

## DMN10H220LE-13
designator IC?
MOSFET N-CH 100V 2.3A SOT223; Manufacturer: Diodes Incorporated; Rds On (Max) at Id, Vgs: 220 mOhm @ 1.6A, 10V; Vgs(th) (Max) at Id: 20V; Gate Charge (Qg): 8.3nC @ 10V; Input Capacitance (Ciss) at Vds: 401pF @ 25V; Current Continuous Drain: 2.3A (Ta); Part Number: DMN10H220LE-13; PartId: 29664; Supplier 1: Digi-Key; Supplier Part Number 1: DMN10H220LE-13DICT-ND; ComponentLink1Description: Datasheet; ComponentLink1URL: http://diodes.com/_files/datasheets/DMN10H220LE.pdf; ComponentLink2Description: Digi-Key Listing; ComponentLink2URL: https://www.digikey.com/product-detail/en/diodes-incorporated/DMN10H220LE-13/DMN10H220LE-13DICT-ND/4747637; Price: 0.85; Type: N-Channel; Device Package: TO-261-4, TO-261AA; Drain to Source Voltage (Vdss): 100V
footprint DIODES SOT-223
pins: 1 G, 2 D, 3 S, 4 D

## DMN10H700S-7
designator IC?
MOSFET N-CHA 100V 700MA SOT23; Manufacturer: Diodes Incorporated; Rds On (Max) at Id, Vgs: 700 mOhm @ 1.5A, 10V; Vgs(th) (Max) at Id: 20V; Gate Charge (Qg): 4.6nC @ 10V; Input Capacitance (Ciss) at Vds: 235pF @ 50V; Current Continuous Drain: 700mA (Ta); Part Number: DMN10H700S-7; PartId: 29555; Supplier 1: Digi-Key; Supplier Part Number 1: DMN10H700S-7DICT-ND; ComponentLink1Description: Datasheet; ComponentLink1URL: http://www.diodes.com/_files/datasheets/DMN10H700S.pdf; ComponentLink2Description: Digi-Key Listing; ComponentLink2URL: https://www.digikey.com/product-detail/en/diodes-incorporated/DMN10H700S-7/DMN10H700S-7DICT-ND/6051883; Price: 0.6; Type: N-Channel; Device Package: TO-236-3, SC-59, SOT-23-3; Drain to Source Voltage (Vdss): 100V
footprint DIODES SOT-23-3
pins: 1 G, 2 D, 3 S

## DMN13H750S-7
designator IC?
MOSFET N-CH 130V 1A SOT23; Manufacturer: Diodes Incorporated; Rds On (Max) at Id, Vgs: 750 mOhm @ 2A, 10V; Vgs(th) (Max) at Id: 20V; Gate Charge (Qg): 5.6nC @ 10V; Input Capacitance (Ciss) at Vds: 231pF @ 25V; Current Continuous Drain: 1A (Ta); Part Number: DMN13H750S-7; PartId: 29579; Supplier 1: Digi-Key; Supplier Part Number 1: DMN13H750S-7DICT-ND; ComponentLink1Description: Datasheet; ComponentLink1URL: http://diodes.com/_files/datasheets/DMN13H750S.pdf; ComponentLink2Description: Digi-Key Listing; ComponentLink2URL: https://www.digikey.com/product-detail/en/diodes-incorporated/DMN13H750S-7/DMN13H750S-7DICT-ND/5126863; Price: 0.79; Type: N-Channel; Device Package: TO-236-3, SC-59, SOT-23-3; Drain to Source Voltage (Vdss): 130V
footprint DIODES SOT-23-3
pins: 1 G, 2 D, 3 S

## DMN15H310SE-13
designator IC?
MOSFET N-CH 150V 2A SOT223; Manufacturer: Diodes Incorporated; Rds On (Max) at Id, Vgs: 310 mOhm @ 1.5A, 10V; Vgs(th) (Max) at Id: 20V; Gate Charge (Qg): 8.7nC @ 10V; Input Capacitance (Ciss) at Vds: 405pF @ 25V; Current Continuous Drain: 2A (Ta), 7.1A (Tc); Part Number: DMN15H310SE-13; PartId: 29668; Supplier 1: Digi-Key; Supplier Part Number 1: DMN15H310SE-13DICT-ND; ComponentLink1Description: Datasheet; ComponentLink1URL: http://diodes.com/_files/datasheets/DMN15H310SE.pdf; ComponentLink2Description: Digi-Key Listing; ComponentLink2URL: https://www.digikey.com/product-detail/en/diodes-incorporated/DMN15H310SE-13/DMN15H310SE-13DICT-ND/5126864; Price: 1.64; Type: N-Channel; Device Package: TO-261-4, TO-261AA; Drain to Source Voltage (Vdss): 150V
footprint DIODES SOT-223
pins: 1 G, 2 D, 3 S, 4 D

## DMN24H3D5L-7
designator IC?
MOSFET N-CH 240V 0.48A SOT23; Manufacturer: Diodes Incorporated; Rds On (Max) at Id, Vgs: 3.5 Ohm @ 300mA, 10V; Vgs(th) (Max) at Id: 20V; Gate Charge (Qg): 6.6nC @ 10V; Input Capacitance (Ciss) at Vds: 188pF @ 25V; Current Continuous Drain: 480mA (Ta); Part Number: DMN24H3D5L-7; PartId: 29574; Supplier 1: Digi-Key; Supplier Part Number 1: DMN24H3D5L-7DICT-ND; ComponentLink1Description: Datasheet; ComponentLink1URL: http://diodes.com/_files/datasheets/DMN24H3D5L.pdf; ComponentLink2Description: Digi-Key Listing; ComponentLink2URL: https://www.digikey.com/product-detail/en/diodes-incorporated/DMN24H3D5L-7/DMN24H3D5L-7DICT-ND/5126865; Price: 0.79; Type: N-Channel; Device Package: TO-236-3, SC-59, SOT-23-3; Drain to Source Voltage (Vdss): 240V
footprint DIODES SOT-23-3
pins: 1 G, 2 D, 3 S

## DMN30H4D0L-13
designator IC?
MOSFET N-CH 300V .25A SOT23; Manufacturer: Diodes Incorporated; Rds On (Max) at Id, Vgs: 4 Ohm @ 300mA, 10V; Vgs(th) (Max) at Id: 20V; Gate Charge (Qg): 7.6nC @ 10V; Input Capacitance (Ciss) at Vds: 187.3pF @ 25V; Current Continuous Drain: 250mA (Ta); Part Number: DMN30H4D0L-13; PartId: 29541; Supplier 1: Digi-Key; Supplier Part Number 1: DMN30H4D0L-13DICT-ND; ComponentLink1Description: Datasheet; ComponentLink1URL: http://diodes.com/_files/datasheets/DMN30H4D0L.pdf; ComponentLink2Description: Digi-Key Listing; ComponentLink2URL: https://www.digikey.com/product-detail/en/diodes-incorporated/DMN30H4D0L-13/DMN30H4D0L-13DICT-ND/5033748; Price: 0.75; Type: N-Channel; Device Package: TO-236-3, SC-59, SOT-23-3; Drain to Source Voltage (Vdss): 300V
footprint DIODES SOT-23-3
pins: 1 G, 2 D, 3 S

## DMN53D0L-7
designator IC?
MOSFET N-CH 50V 0.5A SOT23; Manufacturer: Diodes Incorporated; Rds On (Max) at Id, Vgs: 1.6 Ohm @ 500mA, 10V; Vgs(th) (Max) at Id: 20V; Gate Charge (Qg): 0.6nC @ 4.5V; Input Capacitance (Ciss) at Vds: 46pF @ 25V; Current Continuous Drain: 500mA (Ta); Part Number: DMN53D0L-7; PartId: 29550; Supplier 1: Digi-Key; Supplier Part Number 1: DMN53D0L-7DICT-ND; ComponentLink1Description: Datasheet; ComponentLink1URL: http://diodes.com/_files/datasheets/DMN53D0L.pdf; ComponentLink2Description: Digi-Key Listing; ComponentLink2URL: https://www.digikey.com/product-detail/en/diodes-incorporated/DMN53D0L-7/DMN53D0L-7DICT-ND/4935005; Price: 0.53; Type: N-Channel; Device Package: TO-236-3, SC-59, SOT-23-3; Drain to Source Voltage (Vdss): 50V
footprint DIODES SOT-23-3
pins: 1 G, 2 D, 3 S

## DMN53D0LQ-7
designator IC?
MOSFET N-CH 50V 0.5A SOT23; Manufacturer: Diodes Incorporated; Rds On (Max) at Id, Vgs: 1.6 Ohm @ 500mA, 10V; Vgs(th) (Max) at Id: 20V; Gate Charge (Qg): 0.6nC @ 4.5V; Input Capacitance (Ciss) at Vds: 46pF @ 25V; Current Continuous Drain: 500mA (Ta); Part Number: DMN53D0LQ-7; PartId: 29554; Supplier 1: Digi-Key; Supplier Part Number 1: DMN53D0LQ-7DICT-ND; ComponentLink1Description: Datasheet; ComponentLink1URL: http://www.diodes.com/_files/datasheets/DMN53D0LQ.pdf; ComponentLink2Description: Digi-Key Listing; ComponentLink2URL: https://www.digikey.com/product-detail/en/diodes-incorporated/DMN53D0LQ-7/DMN53D0LQ-7DICT-ND/5994415; Price: 0.54; Type: N-Channel; Device Package: TO-236-3, SC-59, SOT-23-3; Drain to Source Voltage (Vdss): 50V
footprint DIODES SOT-23-3
pins: 1 G, 2 D, 3 S

## DMN53D0LW-7
designator IC?
MOSFET N-CH 50V 360MA SOT323; Manufacturer: Diodes Incorporated; Rds On (Max) at Id, Vgs: 2 Ohm @ 270mA, 10V; Vgs(th) (Max) at Id: 1.5V @ 100uA; Gate Charge (Qg): 1.2nC @ 10V; Input Capacitance (Ciss) at Vds: 45.8pF @ 25V; Power - Max: 320mW; Current Continuous Drain: 360mA (Ta); Part Number: DMN53D0LW-7; PartId: 8082; Supplier 1: Digi-Key; Supplier Part Number 1: DMN53D0LW-7DITR-ND; ComponentLink1Description: Datasheet; ComponentLink1URL: http://www.diodes.com/_files/datasheets/DMN53D0LW.pdf; ComponentLink2Description: Digi-Key Listing; ComponentLink2URL: http://www.digikey.com/product-detail/en/DMN53D0LW-7/DMN53D0LW-7DITR-ND/4567781; Price: 0.046; Type: MOSFET N-Channel, Metal Oxide; Device Package: SC-70, SOT-323; Drain to Source Voltage (Vdss): 50V; Features: Standard
footprint DIODES SOT-323-3
pins: 1 G, 2 D, 3 S

## DMN53D0U-7
designator IC?
MOSFET N-CH 50V 0.3A SOT23; Manufacturer: Diodes Incorporated; Rds On (Max) at Id, Vgs: 2 Ohm @ 50mA, 5V; Vgs(th) (Max) at Id: 12V; Gate Charge (Qg): 0.6nC @ 4.5V; Input Capacitance (Ciss) at Vds: 37.1pF @ 25V; Current Continuous Drain: 300mA (Ta); Part Number: DMN53D0U-7; PartId: 29521; Supplier 1: Digi-Key; Supplier Part Number 1: DMN53D0U-7DICT-ND; ComponentLink1Description: Datasheet; ComponentLink1URL: http://diodes.com/_files/datasheets/DMN53D0U.pdf; ComponentLink2Description: Digi-Key Listing; ComponentLink2URL: https://www.digikey.com/product-detail/en/diodes-incorporated/DMN53D0U-7/DMN53D0U-7DICT-ND/4935007; Price: 0.47; Type: N-Channel; Device Package: TO-236-3, SC-59, SOT-23-3; Drain to Source Voltage (Vdss): 50V
footprint DIODES SOT-23-3
pins: 1 G, 2 D, 3 S

## DMN61D8L-7
designator IC?
MOSFET N-CH 60V 0.47A SOT23; Manufacturer: Diodes Incorporated; Rds On (Max) at Id, Vgs: 1.8 Ohm @ 150mA, 5V; Vgs(th) (Max) at Id: 12V; Gate Charge (Qg): 0.74nC @ 5V; Input Capacitance (Ciss) at Vds: 12.9pF @ 12V; Current Continuous Drain: 470mA (Ta); Part Number: DMN61D8L-7; PartId: 29540; Supplier 1: Digi-Key; Supplier Part Number 1: DMN61D8L-7DICT-ND; ComponentLink1Description: Datasheet; ComponentLink1URL: http://diodes.com/_files/datasheets/DMN61D8L_LVT.pdf; ComponentLink2Description: Digi-Key Listing; ComponentLink2URL: https://www.digikey.com/product-detail/en/diodes-incorporated/DMN61D8L-7/DMN61D8L-7DICT-ND/5189726; Price: 0.76; Type: N-Channel; Device Package: TO-236-3, SC-59, SOT-23-3; Drain to Source Voltage (Vdss): 60V
footprint DIODES SOT-23-3
pins: 1 G, 2 D, 3 S

## DMN61D8LQ-7
designator IC?
MOSFET N-CH 60V SOT23; Manufacturer: Diodes Incorporated; Rds On (Max) at Id, Vgs: 1.8 Ohm @ 150mA, 5V; Vgs(th) (Max) at Id: 12V; Gate Charge (Qg): 0.74nC @ 5V; Input Capacitance (Ciss) at Vds: 12.9pF @ 12V; Current Continuous Drain: 470mA (Ta); Part Number: DMN61D8LQ-7; PartId: 29544; Supplier 1: Digi-Key; Supplier Part Number 1: DMN61D8LQ-7DICT-ND; ComponentLink1Description: Datasheet; ComponentLink1URL: http://www.diodes.com/_files/datasheets/DMN61D8LQ.pdf; ComponentLink2Description: Digi-Key Listing; ComponentLink2URL: https://www.digikey.com/product-detail/en/diodes-incorporated/DMN61D8LQ-7/DMN61D8LQ-7DICT-ND/5492258; Price: 0.66; Type: N-Channel; Device Package: TO-236-3, SC-59, SOT-23-3; Drain to Source Voltage (Vdss): 60V
footprint DIODES SOT-23-3
pins: 1 G, 2 D, 3 S

## DMN61D9U-7
designator IC?
MOSFET N-CH 60V 0.38A; Manufacturer: Diodes Incorporated; Rds On (Max) at Id, Vgs: 2 Ohm @ 50mA, 5V; Vgs(th) (Max) at Id: 20V; Gate Charge (Qg): 0.4nC @ 4.5V; Input Capacitance (Ciss) at Vds: 28.5pF @ 30V; Current Continuous Drain: 380mA (Ta); Part Number: DMN61D9U-7; PartId: 29562; Supplier 1: Digi-Key; Supplier Part Number 1: DMN61D9U-7DICT-ND; ComponentLink1Description: Datasheet; ComponentLink1URL: http://www.diodes.com/_files/datasheets/DMN61D9U.pdf; ComponentLink2Description: Digi-Key Listing; ComponentLink2URL: https://www.digikey.com/product-detail/en/diodes-incorporated/DMN61D9U-7/DMN61D9U-7DICT-ND/5453156; Price: 0.5; Type: N-Channel; Device Package: TO-236-3, SC-59, SOT-23-3; Drain to Source Voltage (Vdss): 60V
footprint DIODES SOT-23-3
pins: 1 G, 2 D, 3 S